# Altium schematic symbol library 691 307 400 0xx.SchLib: 6 symbols
Pins are listed as number, name and electrical type; pins without a type are passive.

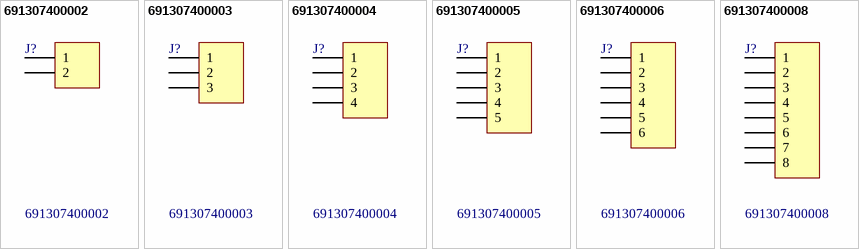
[diagram p0: symbols 691307400002 to 691307400008]

## 691307400002
designator J?
WR-TBL Terminal Blocks Serie 3074 - 7.62 mm; Manufacturer: Würth Elektronik eiSos GmbH; ComponentLink1 Description: Manufacturer; ComponentLink2 Description: Datasheet; NoPins: 02; Created Date: 11 April 2014; partNo: 691307400002; ComponentLink1URL: http://www.we-online.com; ComponentLink2URL: http://katalog.we-online.de/em/datasheet/6913074000xx.pdf; Created by: Karrer Zheng
footprint 691307400002 (7.62 mm - Reversed Gender Vertical PCB Header - 02p)
pins: 1, 2

## 691307400003
designator J?
WR-TBL Terminal Blocks Serie 3074 - 7.62 mm; Manufacturer: Würth Elektronik eiSos GmbH; ComponentLink1 Description: Manufacturer; ComponentLink2 Description: Datasheet; NoPins: 03; Created Date: 11 April 2014; partNo: 691307400003; ComponentLink1URL: http://www.we-online.com; ComponentLink2URL: http://katalog.we-online.de/em/datasheet/6913074000xx.pdf; Created by: Karrer Zheng
footprint 691307400003 (7.62 mm - Reversed Gender Vertical PCB Header - 03p)
pins: 1, 2, 3

## 691307400004
designator J?
WR-TBL Terminal Blocks Serie 3074 - 7.62 mm; Manufacturer: Würth Elektronik eiSos GmbH; ComponentLink1 Description: Manufacturer; ComponentLink2 Description: Datasheet; NoPins: 04; Created Date: 11 April 2014; partNo: 691307400004; ComponentLink1URL: http://www.we-online.com; ComponentLink2URL: http://katalog.we-online.de/em/datasheet/6913074000xx.pdf; Created by: Karrer Zheng
footprint 691307400004 (7.62 mm - Reversed Gender Vertical PCB Header - 04p)
pins: 1, 2, 3, 4

## 691307400005
designator J?
WR-TBL Terminal Blocks Serie 3074 - 7.62 mm; Manufacturer: Würth Elektronik eiSos GmbH; ComponentLink1 Description: Manufacturer; ComponentLink2 Description: Datasheet; NoPins: 05; Created Date: 11 April 2014; partNo: 691307400005; ComponentLink1URL: http://www.we-online.com; ComponentLink2URL: http://katalog.we-online.de/em/datasheet/6913074000xx.pdf; Created by: Karrer Zheng
footprint 691307400005 (7.62 mm - Reversed Gender Vertical PCB Header - 05p)
pins: 1, 2, 3, 4, 5

## 691307400006
designator J?
WR-TBL Terminal Blocks Serie 3074 - 7.62 mm; Manufacturer: Würth Elektronik eiSos GmbH; ComponentLink1 Description: Manufacturer; ComponentLink2 Description: Datasheet; NoPins: 06; Created Date: 11 April 2014; partNo: 691307400006; ComponentLink1URL: http://www.we-online.com; ComponentLink2URL: http://katalog.we-online.de/em/datasheet/6913074000xx.pdf; Created by: Karrer Zheng
footprint 691307400006 (7.62 mm - Reversed Gender Vertical PCB Header - 06p)
pins: 1, 2, 3, 4, 5, 6

## 691307400008
designator J?
WR-TBL Terminal Blocks Serie 3074 - 7.62 mm; Manufacturer: Würth Elektronik eiSos GmbH; ComponentLink1 Description: Manufacturer; ComponentLink2 Description: Datasheet; NoPins: 08; Created Date: 11 April 2014; partNo: 691307400008; ComponentLink1URL: http://www.we-online.com; ComponentLink2URL: http://katalog.we-online.de/em/datasheet/6913074000xx.pdf; Created by: Karrer Zheng
footprint 691307400008 (7.62 mm - Reversed Gender Vertical PCB Header - 08p)
pins: 1, 2, 3, 4, 5, 6, 7, 8